# EAGLE library part LNK632DG (library power_integrations)
The LNK632DG dramatically simplifies low power CV/CC charger designs by eliminating an optocoupler and secondary control circuitry. The device uses an ON/OFF control technique to provide very tight output voltage regulation, in addition to output current control ideal for battery charging applications. The combination of proprietary IC trimming and E-Shield™ transformer construction techniques enables Clampless designs with the LNK632DG when an external bias circuit is used. The device incorporates a 700 V power MOSFET, a novel ON/OFF control state machine, a high voltage switched current source for self biasing, frequency jittering, cycle-by-cycle current limit and
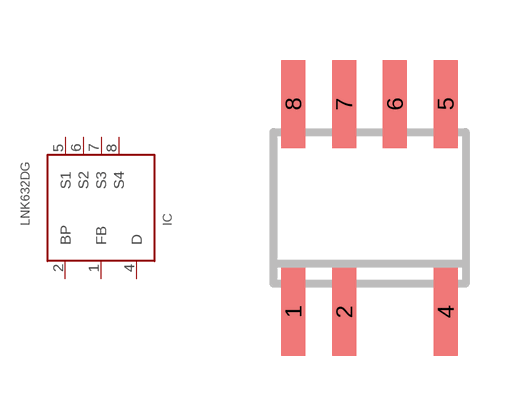
[diagram p22: symbol with the pads of SO8-C(D_PACKAGE); footprint SO8-C(D_PACKAGE)]

Designator prefix IC

## LNK632DG  [SO8-C(D_PACKAGE)]
1  FB
2  BP
4  D
5  S1
6  S2
7  S3
8  S4

## Footprint SO8-C(D_PACKAGE) (pad centres in mm)
SMALL OUTLINE INTEGRATED CIRCUIT body 3.9 mm/JEDEC MS-012AA
smd 0.6 x 2.2: 1 -1.905,-2.6; 2 -0.635,-2.6; 4 1.905,-2.6; 5 1.905,2.6; 6 0.635,2.6; 7 -0.635,2.6; 8 -1.905,2.6